# Altium footprint library APTB3212SURKCGKC-01.PcbLib: 1 footprints
Each footprint in its own frame and in the unit in brackets; x right, y up, seen from the top. Pads: shape width x height; smd on the part's side, far side on the other; paste and mask are expansions set on the pad; w line width, h text height; cw(c..) or ccw(c..) is an arc to the next point about the centre after c.
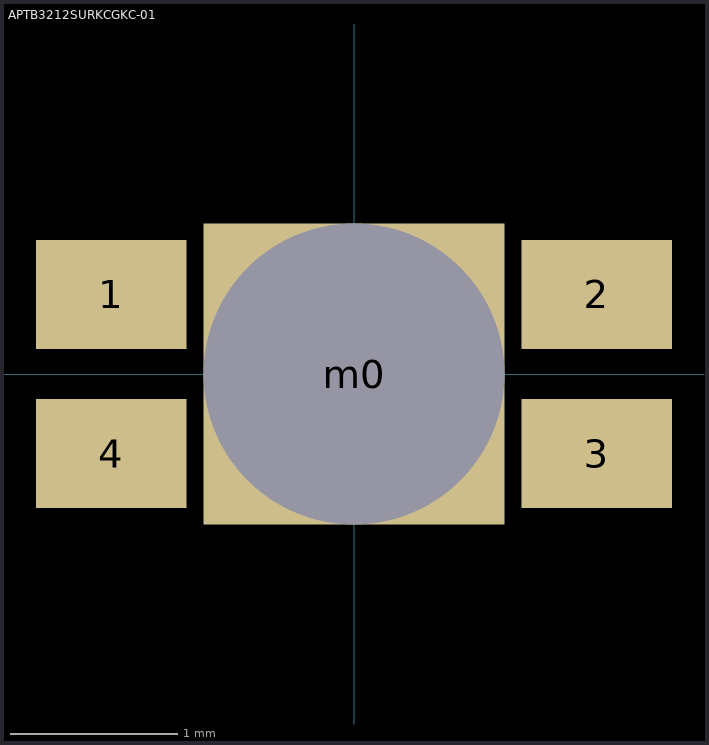
[diagram p0: the footprint, top view; thin cyan lines are the x and y axes]

## APTB3212SURKCGKC-01 [mm]
pads (5):
  rect 0.9x0.65 smd: 1(-1.45,0.475) 2(1.45,0.475) 3(1.45,-0.475) 4(-1.45,-0.475)
  rect 1.8x1.8 hole 1.8 square unplated paste-2539.97 mask+0: m0(0,0)
Assembly:
  lines w0.178: 0.2,0 0.5,0 ; 0.5,-0.5 0.5,0.5